# Altium footprint library KMR231GLFS.PcbLib: 1 footprints
Each footprint in its own frame and in the unit in brackets; x right, y up, seen from the top. Pads: shape width x height; smd on the part's side, far side on the other; paste and mask are expansions set on the pad; w line width, h text height; cw(c..) or ccw(c..) is an arc to the next point about the centre after c.
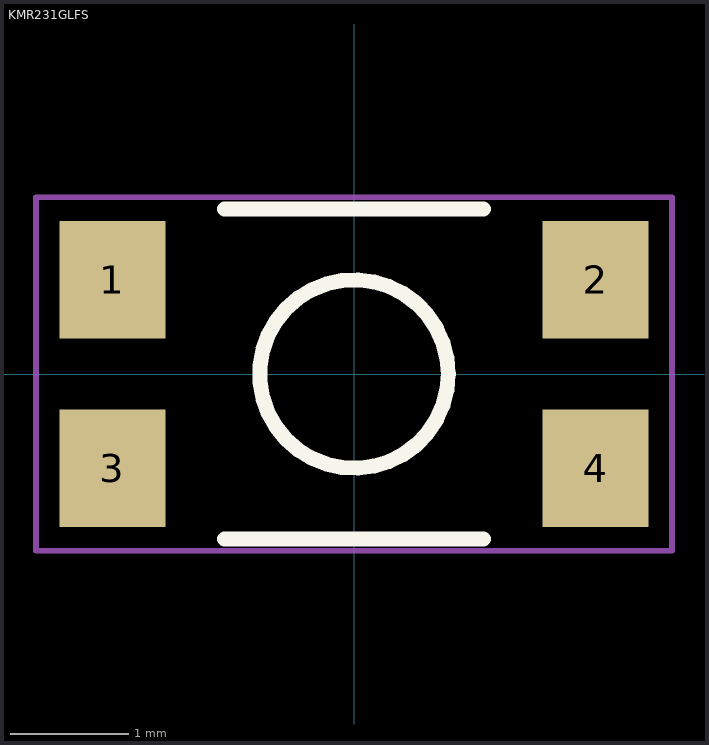
[diagram p0: the footprint, top view; thin cyan lines are the x and y axes]

## KMR231GLFS [mm]
pads (4):
  rect 0.9x1 smd: 1(-2.05,0.8) 2(2.05,0.8) 3(-2.05,-0.8) 4(2.05,-0.8)
Top Overlay:
  circle w0.127: c0,0 r0.8
  lines w0.127: -1.1,-1.4 1.1,-1.4 ; -1.1,1.4 1.1,1.4
Mechanical 15:
  lines w0.05: -2.7,-1.5 -2.7,1.5 2.7,1.5 2.7,-1.5 -2.7,-1.5
3D body: height 1.4, standoff 0, extent -2.1,-1.4 2.1,1.4
3D body: height 1.9, standoff 1.4, extent -0.8,-0.8 0.8,0.8